# Altium integrated library OPA656U.IntLib: 1 symbol
Pins are listed as number, name and electrical type; pins without a type are passive.

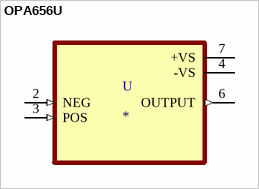
[diagram p0: symbol OPA656U]

## OPA656U
designator U
Wideband, Unity Gain Stable FET-Input Operational Amplifier; MF: Texas Instruments; MP: OPA656U; Package: SOIC-8 Texas Instruments; Value: *; Price: None; Availability: Unavailable; Texas_Instruments-Purchase-URL: https://snapeda.com/shop?store=Texas+Instruments&id=454826; Mouser-Purchase-URL: https://snapeda.com/shop?store=Mouser&id=454826; DigiKey-Purchase-URL: https://snapeda.com/shop?store=DigiKey&id=454826; SnapEDA_Link: https://www.snapeda.com/parts/OPA656U/Texas%20Instruments/view-part/454826/?ref=snap
footprint SOIC127P599X175-8N
pins: 2 NEG (in), 3 POS (in), 4 -VS (power), 6 OUTPUT (out), 7 +VS (power)